# Altium schematic symbol library Raspberry_Pi_3_case.Schlib: 1 symbol
Pins are listed as number, name and electrical type; pins without a type are passive.

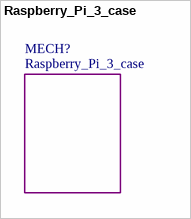
[diagram p0: symbol Raspberry_Pi_3_case]

## Raspberry_Pi_3_case
designator MECH?
2 alternate drawings of the same symbol